# Altium footprint library switch.PcbLib: 6 footprints
Each footprint in its own frame and in the unit in brackets; x right, y up, seen from the top. Pads: shape width x height; smd on the part's side, far side on the other; paste and mask are expansions set on the pad; w line width, h text height; cw(c..) or ccw(c..) is an arc to the next point about the centre after c.
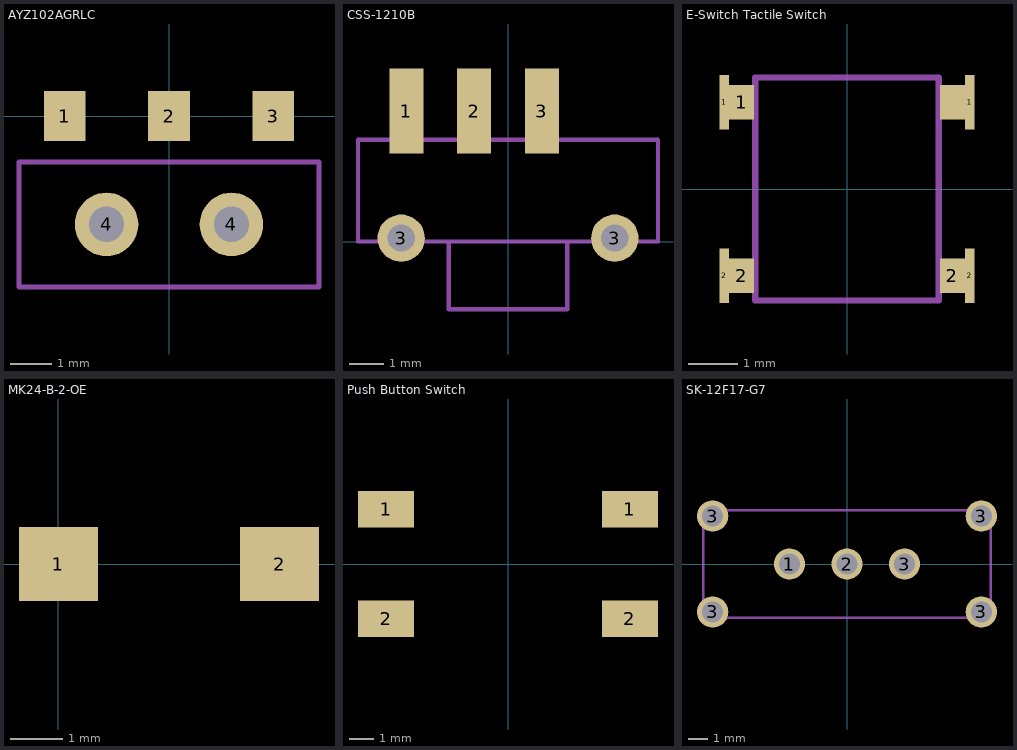
[diagram p0: the footprints below, top view; thin cyan lines are the x and y axes]

## AYZ102AGRLC [mm] "SPDT, Slide Switch, Right Angle"
height 1.5
pads (5):
  rect 1x1.2 smd: 1(-2.5,0) 2(0,0) 3(2.5,0)
  round 1.524 hole 0.85: 4(-1.5,-2.6) 4(1.5,-2.6)
Mechanical 1:
  lines w0.127: -3.6,-4.1 3.6,-4.1 3.6,-1.1 -3.6,-1.1 -3.6,-4.1
3D body: height 1.5, standoff 0, extent -3.6,-4.1 3.6,-1.1
3D body: height 1.3, standoff 0.5, extent -1.27,-5.072 1.27,-4.072

## CSS-1210B [mm] "SPDT, Right Angle, Slide Switch"
height 2
pads (5):
  rect 1x2.5 smd: 1(-3,3.85) 2(-1,3.85) 3(1,3.85)
  round 1.397 hole 0.8: 3(-3.15,0.1) 3(3.15,0.1)
Mechanical 1:
  lines w0.127: -1.75,0 -1.75,-2 1.75,-2 1.75,-0.028 ; -4.425,0 -4.425,3 4.425,3 4.425,0 -4.425,0
3D body: height 2, standoff 0, extent -4.425,0 4.425,3
3D body: height 1.3, standoff 0.7, extent -1.75,-2 1.75,0

## E-Switch Tactile Switch [mm] "4 Terminal, Momentary, NO, Tacticle Switch"
height 0.55
pads (8):
  rect 0.2x1.1 smd: 1(-2.475,1.75) 1(2.475,1.75) 2(-2.475,-1.75) 2(2.475,-1.75)
  rect 0.5x0.7 smd: 1(-2.125,1.75) 2(-2.125,-1.75) 2(2.125,-1.75) " "(2.125,1.75)
Mechanical 1:
  lines w0.127: -1.85,-2.25 -1.85,2.25 1.85,2.25 1.85,-2.25 -1.85,-2.25

## MK24-B-2-OE [mm] "SPST Magnetic Switch"
height 2.5
pads (2):
  rect 1.5x1.4 smd: 1(0,0) 2(4.2,0)
3D body: height 2.6, standoff 0, extent -0.4,-1.1 4.6,1.1

## Push Button Switch [mm] "4 Terminal, Surface Mount Switch"
height 6.5
pads (4):
  rect 2.3x1.5 smd: 1(-5,2.25) 1(5,2.25) 2(-5,-2.25) 2(5,-2.25)

## SK-12F17-G7 [mm] "SPDT Slide Switch"
height 8
pads (7):
  round 1.633 hole 1.1: 1(-3,0) 2(0,0) 3(-7,-2.5) 3(-7,2.5) 3(3,0) 3(7,-2.5) 3(7,2.5)
Mechanical 1:
  lines w0.127: -7.5,-2.8 -7.5,2.8 7.5,2.8 7.5,-2.8 -7.5,-2.8
3D body: height 8, standoff 0, extent -7.5,-2.8 7.5,2.8
3D body: height 6, standoff 3, extent -3.5,2.8 3.5,9.8